# Altium footprint library IC_QFP.PcbLib: 10 footprints (part 2 of 4)
Each footprint in its own frame and in the unit in brackets; x right, y up, seen from the top. Pads: shape width x height; smd on the part's side, far side on the other; paste and mask are expansions set on the pad; w line width, h text height; cw(c..) or ccw(c..) is an arc to the next point about the centre after c.
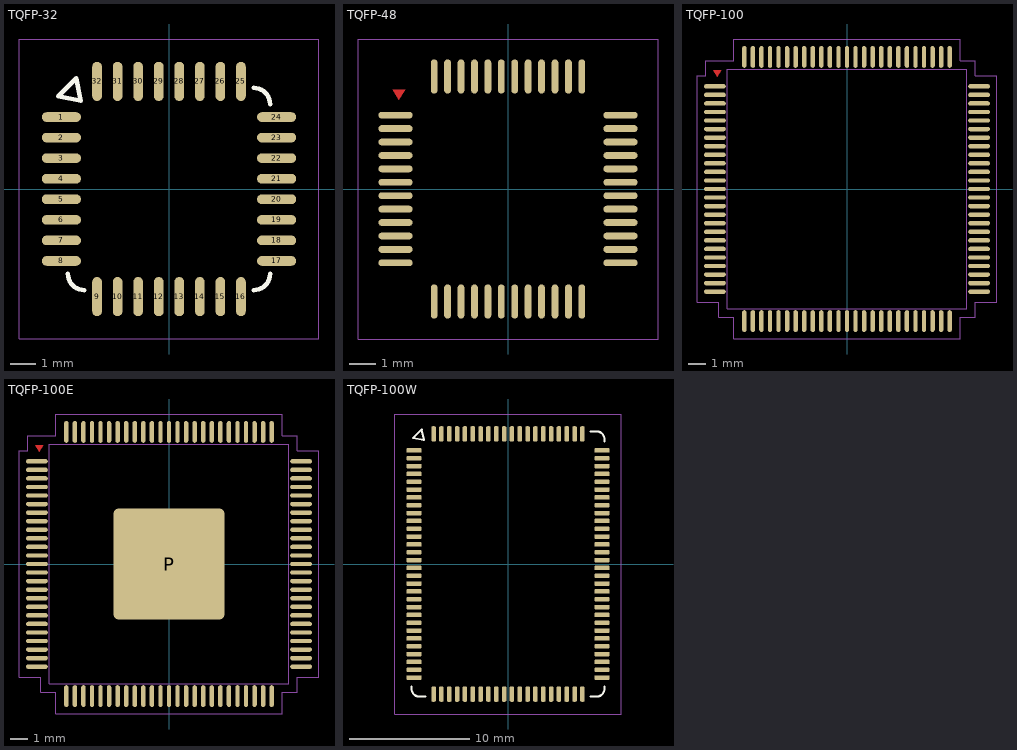
[diagram p1: the footprints below, top view; thin cyan lines are the x and y axes]

## TQFP-32 [mil]
pads (32):
  oval 60x15 smd: 1(-165,110.24) 2(-165,78.74) 3(-165,47.24) 4(-165,15.75) 5(-165,-15.75) 6(-165,-47.24) 7(-165,-78.74) 8(-165,-110.24) 17(165,-110.24) 18(165,-78.74) 19(165,-47.24) 20(165,-15.75) 21(165,15.75) 22(165,47.24) 23(165,78.74) 24(165,110.24)
  oval 15x60 smd: 9(-110.24,-165) 10(-78.74,-165) 11(-47.24,-165) 12(-15.75,-165) 13(15.75,-165) 14(47.24,-165) 15(78.74,-165) 16(110.24,-165) 25(110.24,165) 26(78.74,165) 27(47.24,165) 28(15.75,165) 29(-15.75,165) 30(-47.24,165) 31(-78.74,165) 32(-110.24,165)
Top Overlay:
  lines w7: -155,-130 ccw(c-130,-130) -130,-155 ; 130,-155 ccw(c130,-130) 155,-130 ; 130,155 cw(c130,130) 155,130 ; -169.8,141.96 -135,135 -141.96,169.8 -169.8,141.96
Top Courtyard:
  lines w1: -230,-230 -230,230 230,230 230,-230 -230,-230
3D body: height 30, standoff 0, extent 105.24,-158.94 115.24,-148.94
3D body: height 7, standoff 0, extent 105.24,-178.94 115.24,-158.94
3D body: height 30, standoff 23, extent 105.24,-148.94 115.24,-138.94
3D body: height 30, standoff 0, extent 73.74,-158.94 83.74,-148.94
3D body: height 7, standoff 0, extent 73.74,-178.94 83.74,-158.94
3D body: height 30, standoff 23, extent 73.74,-148.94 83.74,-138.94
3D body: height 30, standoff 0, extent 42.24,-158.94 52.24,-148.94
3D body: height 7, standoff 0, extent 42.24,-178.94 52.24,-158.94
3D body: height 30, standoff 23, extent 42.24,-148.94 52.24,-138.94
3D body: height 30, standoff 0, extent 10.75,-158.94 20.75,-148.94
3D body: height 7, standoff 0, extent 10.75,-178.94 20.75,-158.94
3D body: height 30, standoff 23, extent 10.75,-148.94 20.75,-138.94
3D body: height 30, standoff 0, extent -20.75,-158.94 -10.75,-148.94
3D body: height 7, standoff 0, extent -20.75,-178.94 -10.75,-158.94
3D body: height 30, standoff 23, extent -20.75,-148.94 -10.75,-138.94
3D body: height 30, standoff 0, extent -52.24,-158.94 -42.24,-148.94
3D body: height 7, standoff 0, extent -52.24,-178.94 -42.24,-158.94
3D body: height 30, standoff 23, extent -52.24,-148.94 -42.24,-138.94
3D body: height 30, standoff 0, extent -83.74,-158.94 -73.74,-148.94
3D body: height 7, standoff 0, extent -83.74,-178.94 -73.74,-158.94
3D body: height 30, standoff 23, extent -83.74,-148.94 -73.74,-138.94
3D body: height 30, standoff 0, extent -115.24,-158.94 -105.24,-148.94
3D body: height 7, standoff 0, extent -115.24,-178.94 -105.24,-158.94
3D body: height 30, standoff 23, extent -115.24,-148.94 -105.24,-138.94
3D body: height 30, standoff 0, extent -158.94,-115.24 -148.94,-105.24
3D body: height 7, standoff 0, extent -178.94,-115.24 -158.94,-105.24
3D body: height 30, standoff 23, extent -148.94,-115.24 -138.94,-105.24
3D body: height 30, standoff 0, extent -158.94,-83.74 -148.94,-73.74
3D body: height 7, standoff 0, extent -178.94,-83.74 -158.94,-73.74
3D body: height 30, standoff 23, extent -148.94,-83.74 -138.94,-73.74
3D body: height 30, standoff 0, extent -158.94,-52.24 -148.94,-42.24
3D body: height 7, standoff 0, extent -178.94,-52.24 -158.94,-42.24
3D body: height 30, standoff 23, extent -148.94,-52.24 -138.94,-42.24
3D body: height 30, standoff 0, extent -158.94,-20.75 -148.94,-10.75
3D body: height 7, standoff 0, extent -178.94,-20.75 -158.94,-10.75
3D body: height 30, standoff 23, extent -148.94,-20.75 -138.94,-10.75
3D body: height 30, standoff 0, extent -158.94,10.75 -148.94,20.75
3D body: height 7, standoff 0, extent -178.94,10.75 -158.94,20.75
3D body: height 30, standoff 23, extent -148.94,10.75 -138.94,20.75
3D body: height 30, standoff 0, extent -158.94,42.24 -148.94,52.24
3D body: height 7, standoff 0, extent -178.94,42.24 -158.94,52.24
3D body: height 30, standoff 23, extent -148.94,42.24 -138.94,52.24
3D body: height 30, standoff 0, extent -158.94,73.74 -148.94,83.74
3D body: height 7, standoff 0, extent -178.94,73.74 -158.94,83.74
3D body: height 30, standoff 23, extent -148.94,73.74 -138.94,83.74
3D body: height 30, standoff 0, extent -158.94,105.24 -148.94,115.24
3D body: height 7, standoff 0, extent -178.94,105.24 -158.94,115.24
3D body: height 30, standoff 23, extent -148.94,105.24 -138.94,115.24
3D body: height 30, standoff 0, extent -115.24,148.94 -105.24,158.94
3D body: height 7, standoff 0, extent -115.24,158.94 -105.24,178.94
3D body: height 30, standoff 23, extent -115.24,138.94 -105.24,148.94
3D body: height 30, standoff 0, extent -83.74,148.94 -73.74,158.94
3D body: height 7, standoff 0, extent -83.74,158.94 -73.74,178.94
3D body: height 30, standoff 23, extent -83.74,138.94 -73.74,148.94
3D body: height 30, standoff 0, extent -52.24,148.94 -42.24,158.94
3D body: height 7, standoff 0, extent -52.24,158.94 -42.24,178.94
3D body: height 30, standoff 23, extent -52.24,138.94 -42.24,148.94
3D body: height 30, standoff 0, extent -20.75,148.94 -10.75,158.94
3D body: height 7, standoff 0, extent -20.75,158.94 -10.75,178.94
3D body: height 30, standoff 23, extent -20.75,138.94 -10.75,148.94
3D body: height 30, standoff 0, extent 10.75,148.94 20.75,158.94
3D body: height 7, standoff 0, extent 10.75,158.94 20.75,178.94
3D body: height 30, standoff 23, extent 10.75,138.94 20.75,148.94
3D body: height 30, standoff 0, extent 42.24,148.94 52.24,158.94
3D body: height 7, standoff 0, extent 42.24,158.94 52.24,178.94
3D body: height 30, standoff 23, extent 42.24,138.94 52.24,148.94
3D body: height 30, standoff 0, extent 73.74,148.94 83.74,158.94
3D body: height 7, standoff 0, extent 73.74,158.94 83.74,178.94
3D body: height 30, standoff 23, extent 73.74,138.94 83.74,148.94
3D body: height 30, standoff 0, extent 105.24,148.94 115.24,158.94
3D body: height 7, standoff 0, extent 105.24,158.94 115.24,178.94
3D body: height 30, standoff 23, extent 105.24,138.94 115.24,148.94
3D body: height 30, standoff 23, extent 138.94,-115.24 148.94,-105.24
3D body: height 7, standoff 0, extent 158.94,-115.24 178.94,-105.24
3D body: height 30, standoff 0, extent 148.94,-115.24 158.94,-105.24
3D body: height 30, standoff 23, extent 138.94,-83.74 148.94,-73.74
3D body: height 7, standoff 0, extent 158.94,-83.74 178.94,-73.74
3D body: height 30, standoff 0, extent 148.94,-83.74 158.94,-73.74
3D body: height 30, standoff 23, extent 138.94,-52.24 148.94,-42.24
3D body: height 7, standoff 0, extent 158.94,-52.24 178.94,-42.24
3D body: height 30, standoff 0, extent 148.94,-52.24 158.94,-42.24
3D body: height 30, standoff 23, extent 138.94,-20.75 148.94,-10.75
3D body: height 7, standoff 0, extent 158.94,-20.75 178.94,-10.75
3D body: height 30, standoff 0, extent 148.94,-20.75 158.94,-10.75
3D body: height 30, standoff 23, extent 138.94,10.75 148.94,20.75
3D body: height 7, standoff 0, extent 158.94,10.75 178.94,20.75
3D body: height 30, standoff 0, extent 148.94,10.75 158.94,20.75
3D body: height 30, standoff 23, extent 138.94,42.24 148.94,52.24
3D body: height 7, standoff 0, extent 158.94,42.24 178.94,52.24
3D body: height 30, standoff 0, extent 148.94,42.24 158.94,52.24
3D body: height 30, standoff 23, extent 138.94,73.74 148.94,83.74
3D body: height 7, standoff 0, extent 158.94,73.74 178.94,83.74
3D body: height 30, standoff 0, extent 148.94,73.74 158.94,83.74
3D body: height 30, standoff 23, extent 138.94,105.24 148.94,115.24
3D body: height 7, standoff 0, extent 158.94,105.24 178.94,115.24
3D body: height 30, standoff 0, extent 148.94,105.24 158.94,115.24
3D body: height 45.5, standoff 45, extent -120,94 -94,120
3D body: height 45, standoff 0, extent -140,-140 140,140

## TQFP-48 [mil]
pads (48):
  oval 50x10 smd mask+2: 1(-165,108.27) 2(-165,88.58) 3(-165,68.9) 4(-165,49.21) 5(-165,29.53) 6(-165,9.84) 7(-165,-9.84) 8(-165,-29.53) 9(-165,-49.21) 10(-165,-68.9) 11(-165,-88.58) 12(-165,-108.27) 25(165,-108.27) 26(165,-88.58) 27(165,-68.9) 28(165,-49.21) 29(165,-29.53) 30(165,-9.84) 31(165,9.84) 32(165,29.53) 33(165,49.21) 34(165,68.9) 35(165,88.58) 36(165,108.27)
  oval 10x50 smd mask+2: 13(-108.27,-165) 14(-88.58,-165) 15(-68.9,-165) 16(-49.21,-165) 17(-29.53,-165) 18(-9.84,-165) 19(9.84,-165) 20(29.53,-165) 21(49.21,-165) 22(68.9,-165) 23(88.58,-165) 24(108.27,-165) 37(108.27,165) 38(88.58,165) 39(68.9,165) 40(49.21,165) 41(29.53,165) 42(9.84,165) 43(-9.84,165) 44(-29.53,165) 45(-49.21,165) 46(-68.9,165) 47(-88.58,165) 48(-108.27,165)
Top Layer:
  region: -160,130.63 -151,145.63 -169,145.63
Top Courtyard:
  lines w1: -220,-220 220,-220 220,220 -220,220 -220,-220
3D body "LQFP-48.stp": height 61.99, standoff -0.97, extent -177.16,-177.16 177.17,177.17

## TQFP-100 [mil]
pads (100):
  oval 50x10 smd mask+2: 1(-303.78,236.22) 2(-303.78,216.54) 3(-303.78,196.85) 4(-303.78,177.17) 5(-303.78,157.48) 6(-303.78,137.8) 7(-303.78,118.11) 8(-303.78,98.43) 9(-303.78,78.74) 10(-303.78,59.06) 11(-303.78,39.37) 12(-303.78,19.68) 13(-303.78,0) 14(-303.78,-19.68) 15(-303.78,-39.37) 16(-303.78,-59.06) 17(-303.78,-78.74) 18(-303.78,-98.43) 19(-303.78,-118.11) 20(-303.78,-137.8) 21(-303.78,-157.48) 22(-303.78,-177.17) 23(-303.78,-196.85) 24(-303.78,-216.54) 25(-303.78,-236.22) 51(303.78,-236.22) 52(303.78,-216.54) 53(303.78,-196.85) 54(303.78,-177.17) 55(303.78,-157.48) 56(303.78,-137.8) 57(303.78,-118.11) 58(303.78,-98.43) 59(303.78,-78.74) 60(303.78,-59.06) 61(303.78,-39.37) 62(303.78,-19.68) 63(303.78,0) 64(303.78,19.68) 65(303.78,39.37) 66(303.78,59.06) 67(303.78,78.74) 68(303.78,98.43) 69(303.78,118.11) 70(303.78,137.8) 71(303.78,157.48) 72(303.78,177.17) 73(303.78,196.85) 74(303.78,216.54) 75(303.78,236.22)
  oval 10x50 smd mask+2: 26(-236.22,-303.78) 27(-216.54,-303.78) 28(-196.85,-303.78) 29(-177.17,-303.78) 30(-157.48,-303.78) 31(-137.8,-303.78) 32(-118.11,-303.78) 33(-98.43,-303.78) 34(-78.74,-303.78) 35(-59.06,-303.78) 36(-39.37,-303.78) 37(-19.68,-303.78) 38(0,-303.78) 39(19.68,-303.78) 40(39.37,-303.78) 41(59.06,-303.78) 42(78.74,-303.78) 43(98.43,-303.78) 44(118.11,-303.78) 45(137.8,-303.78) 46(157.48,-303.78) 47(177.17,-303.78) 48(196.85,-303.78) 49(216.53,-303.78) 50(236.22,-303.78) 76(236.22,303.78) 77(216.53,303.78) 78(196.85,303.78) 79(177.16,303.78) 80(157.48,303.78) 81(137.8,303.78) 82(118.11,303.78) 83(98.43,303.78) 84(78.74,303.78) 85(59.06,303.78) 86(39.37,303.78) 87(19.68,303.78) 88(0,303.78) 89(-19.68,303.78) 90(-39.37,303.78) 91(-59.06,303.78) 92(-78.74,303.78) 93(-98.43,303.78) 94(-118.11,303.78) 95(-137.8,303.78) 96(-157.48,303.78) 97(-177.17,303.78) 98(-196.85,303.78) 99(-216.54,303.78) 100(-236.22,303.78)
Top Layer:
  region: -298.78,258.58 -289.78,273.58 -307.78,273.58
Top Courtyard:
  lines w1: -345,-260 -295,-260 -295,-295 -260,-295 -260,-345 260,-345 260,-295 295,-295 295,-260 345,-260 345,260 295,260 295,295 260,295 260,345 -260,345 -260,295 -325,295 -325,260 -345,260 -345,-260
Top Component Outline:
  lines w1: -275.59,-275.59 -275.59,275.59 275.59,275.59 275.59,-275.59 -275.59,-275.59
3D body "TQFP-100.STEP": height 46.24, standoff -0.97, extent -314.95,-314.96 314.97,314.96

## TQFP-100E [mil]
pads (101):
  oval 50x10 smd mask+2: 1(-303.78,236.22) 2(-303.78,216.54) 3(-303.78,196.85) 4(-303.78,177.17) 5(-303.78,157.48) 6(-303.78,137.8) 7(-303.78,118.11) 8(-303.78,98.43) 9(-303.78,78.74) 10(-303.78,59.06) 11(-303.78,39.37) 12(-303.78,19.68) 13(-303.78,0) 14(-303.78,-19.68) 15(-303.78,-39.37) 16(-303.78,-59.06) 17(-303.78,-78.74) 18(-303.78,-98.43) 19(-303.78,-118.11) 20(-303.78,-137.8) 21(-303.78,-157.48) 22(-303.78,-177.17) 23(-303.78,-196.85) 24(-303.78,-216.54) 25(-303.78,-236.22) 51(303.78,-236.22) 52(303.78,-216.54) 53(303.78,-196.85) 54(303.78,-177.17) 55(303.78,-157.48) 56(303.78,-137.8) 57(303.78,-118.11) 58(303.78,-98.43) 59(303.78,-78.74) 60(303.78,-59.06) 61(303.78,-39.37) 62(303.78,-19.68) 63(303.78,0) 64(303.78,19.68) 65(303.78,39.37) 66(303.78,59.06) 67(303.78,78.74) 68(303.78,98.43) 69(303.78,118.11) 70(303.78,137.8) 71(303.78,157.48) 72(303.78,177.17) 73(303.78,196.85) 74(303.78,216.54) 75(303.78,236.22)
  oval 10x50 smd mask+2: 26(-236.22,-303.78) 27(-216.54,-303.78) 28(-196.85,-303.78) 29(-177.17,-303.78) 30(-157.48,-303.78) 31(-137.8,-303.78) 32(-118.11,-303.78) 33(-98.43,-303.78) 34(-78.74,-303.78) 35(-59.06,-303.78) 36(-39.37,-303.78) 37(-19.68,-303.78) 38(0,-303.78) 39(19.68,-303.78) 40(39.37,-303.78) 41(59.06,-303.78) 42(78.74,-303.78) 43(98.43,-303.78) 44(118.11,-303.78) 45(137.8,-303.78) 46(157.48,-303.78) 47(177.17,-303.78) 48(196.85,-303.78) 49(216.53,-303.78) 50(236.22,-303.78) 76(236.22,303.78) 77(216.53,303.78) 78(196.85,303.78) 79(177.16,303.78) 80(157.48,303.78) 81(137.8,303.78) 82(118.11,303.78) 83(98.43,303.78) 84(78.74,303.78) 85(59.06,303.78) 86(39.37,303.78) 87(19.68,303.78) 88(0,303.78) 89(-19.68,303.78) 90(-39.37,303.78) 91(-59.06,303.78) 92(-78.74,303.78) 93(-98.43,303.78) 94(-118.11,303.78) 95(-137.8,303.78) 96(-157.48,303.78) 97(-177.17,303.78) 98(-196.85,303.78) 99(-216.54,303.78) 100(-236.22,303.78)
  rrect10% 256x256 smd: P(0,0)
Top Layer:
  region: -298.78,258.58 -289.78,273.58 -307.78,273.58
Top Courtyard:
  lines w1: -345,-260 -295,-260 -295,-295 -260,-295 -260,-345 260,-345 260,-295 295,-295 295,-260 345,-260 345,260 295,260 295,295 260,295 260,345 -260,345 -260,295 -325,295 -325,260 -345,260 -345,-260
Top Component Outline:
  lines w1: -275.59,-275.59 -275.59,275.59 275.59,275.59 275.59,-275.59 -275.59,-275.59
3D body "TQFP-100.STEP": height 46.24, standoff -0.97, extent -314.95,-314.96 314.97,314.96

## TQFP-100W [mil]
pads (100):
  rrect60% 50x15 smd: 1(-307,371.06) 2(-307,345.47) 3(-307,319.88) 4(-307,294.29) 5(-307,268.7) 6(-307,243.11) 7(-307,217.52) 8(-307,191.93) 9(-307,166.34) 10(-307,140.75) 11(-307,115.16) 12(-307,89.57) 13(-307,63.98) 14(-307,38.39) 15(-307,12.8) 16(-307,-12.8) 17(-307,-38.39) 18(-307,-63.98) 19(-307,-89.57) 20(-307,-115.16) 21(-307,-140.75) 22(-307,-166.34) 23(-307,-191.93) 24(-307,-217.52) 25(-307,-243.11) 26(-307,-268.7) 27(-307,-294.29) 28(-307,-319.88) 29(-307,-345.47) 30(-307,-371.06) 51(307,-371.06) 52(307,-345.47) 53(307,-319.88) 54(307,-294.29) 55(307,-268.7) 56(307,-243.11) 57(307,-217.52) 58(307,-191.93) 59(307,-166.34) 60(307,-140.75) 61(307,-115.16) 62(307,-89.57) 63(307,-63.98) 64(307,-38.39) 65(307,-12.8) 66(307,12.8) 67(307,38.39) 68(307,63.98) 69(307,89.57) 70(307,115.16) 71(307,140.75) 72(307,166.34) 73(307,191.93) 74(307,217.52) 75(307,243.11) 76(307,268.7) 77(307,294.29) 78(307,319.88) 79(307,345.47) 80(307,371.06)
  rrect60% 15x50 smd: 31(-243.11,-425) 32(-217.52,-425) 33(-191.93,-425) 34(-166.34,-425) 35(-140.75,-425) 36(-115.16,-425) 37(-89.57,-425) 38(-63.98,-425) 39(-38.39,-425) 40(-12.8,-425) 41(12.8,-425) 42(38.39,-425) 43(63.98,-425) 44(89.57,-425) 45(115.16,-425) 46(140.75,-425) 47(166.34,-425) 48(191.93,-425) 49(217.52,-425) 50(243.11,-425) 81(243.11,425) 82(217.52,425) 83(191.93,425) 84(166.34,425) 85(140.75,425) 86(115.16,425) 87(89.57,425) 88(63.98,425) 89(38.39,425) 90(12.8,425) 91(-12.8,425) 92(-38.39,425) 93(-63.98,425) 94(-89.57,425) 95(-115.16,425) 96(-140.75,425) 97(-166.34,425) 98(-191.93,425) 99(-217.52,425) 100(-243.11,425)
Top Overlay:
  lines w7: -314.96,-400 -314.96,-408.07 ccw(c-289.96,-408.07) -289.96,-433.07 -269.96,-433.07 ; 269.96,-433.07 289.96,-433.07 ccw(c289.96,-408.07) 314.96,-408.07 314.96,-400 ; 269.96,433.07 289.96,433.07 cw(c289.96,408.07) 314.96,408.07 314.96,400 ; -309.8,411.96 -281.96,439.8 -275,405 -309.8,411.96
Top Courtyard:
  lines w1: -370,-490 -370,490 370,490 370,-490 -370,-490
3D body: height 60, standoff 0, extent -275.59,-393.7 275.59,393.7
3D body: height 60.5, standoff 60, extent -228,319 -202,345
3D body: height 6, standoff 0, extent -314.96,365.06 -299.96,377.06
3D body: height 30, standoff 0, extent -299.96,365.06 -289.96,377.06
3D body: height 30, standoff 24, extent -289.96,365.06 -272.96,377.06
3D body: height 6, standoff 0, extent -314.96,339.47 -299.96,351.47
3D body: height 30, standoff 0, extent -299.96,339.47 -289.96,351.47
3D body: height 30, standoff 24, extent -289.96,339.47 -272.96,351.47
3D body: height 6, standoff 0, extent -314.96,313.88 -299.96,325.88
3D body: height 30, standoff 0, extent -299.96,313.88 -289.96,325.88
3D body: height 30, standoff 24, extent -289.96,313.88 -272.96,325.88
3D body: height 6, standoff 0, extent -314.96,288.29 -299.96,300.29
3D body: height 30, standoff 0, extent -299.96,288.29 -289.96,300.29
3D body: height 30, standoff 24, extent -289.96,288.29 -272.96,300.29
3D body: height 6, standoff 0, extent -314.96,262.7 -299.96,274.7
3D body: height 30, standoff 0, extent -299.96,262.7 -289.96,274.7
3D body: height 30, standoff 24, extent -289.96,262.7 -272.96,274.7
3D body: height 30, standoff 24, extent -289.96,134.75 -272.96,146.75
3D body: height 30, standoff 0, extent -299.96,134.75 -289.96,146.75
3D body: height 6, standoff 0, extent -314.96,134.75 -299.96,146.75
3D body: height 30, standoff 24, extent -289.96,160.34 -272.96,172.34
3D body: height 30, standoff 0, extent -299.96,160.34 -289.96,172.34
3D body: height 6, standoff 0, extent -314.96,160.34 -299.96,172.34
3D body: height 30, standoff 24, extent -289.96,185.93 -272.96,197.93
3D body: height 30, standoff 0, extent -299.96,185.93 -289.96,197.93
3D body: height 6, standoff 0, extent -314.96,185.93 -299.96,197.93
3D body: height 30, standoff 24, extent -289.96,211.52 -272.96,223.52
3D body: height 30, standoff 0, extent -299.96,211.52 -289.96,223.52
3D body: height 6, standoff 0, extent -314.96,211.52 -299.96,223.52
3D body: height 30, standoff 24, extent -289.96,237.11 -272.96,249.11
3D body: height 30, standoff 0, extent -299.96,237.11 -289.96,249.11
3D body: height 6, standoff 0, extent -314.96,237.11 -299.96,249.11
3D body: height 30, standoff 24, extent -289.96,6.8 -272.96,18.8
3D body: height 30, standoff 0, extent -299.96,6.8 -289.96,18.8
3D body: height 6, standoff 0, extent -314.96,6.8 -299.96,18.8
3D body: height 30, standoff 24, extent -289.96,32.39 -272.96,44.39
3D body: height 30, standoff 0, extent -299.96,32.39 -289.96,44.39
3D body: height 6, standoff 0, extent -314.96,32.39 -299.96,44.39
3D body: height 30, standoff 24, extent -289.96,57.98 -272.96,69.98
3D body: height 30, standoff 0, extent -299.96,57.98 -289.96,69.98
3D body: height 6, standoff 0, extent -314.96,57.98 -299.96,69.98
3D body: height 30, standoff 24, extent -289.96,83.57 -272.96,95.57
3D body: height 30, standoff 0, extent -299.96,83.57 -289.96,95.57
3D body: height 6, standoff 0, extent -314.96,83.57 -299.96,95.57
3D body: height 30, standoff 24, extent -289.96,109.16 -272.96,121.16
3D body: height 30, standoff 0, extent -299.96,109.16 -289.96,121.16
3D body: height 6, standoff 0, extent -314.96,109.16 -299.96,121.16
3D body: height 30, standoff 24, extent -289.96,-121.16 -272.96,-109.16
3D body: height 30, standoff 0, extent -299.96,-121.16 -289.96,-109.16
3D body: height 6, standoff 0, extent -314.96,-121.16 -299.96,-109.16
3D body: height 30, standoff 24, extent -289.96,-95.57 -272.96,-83.57
3D body: height 30, standoff 0, extent -299.96,-95.57 -289.96,-83.57
3D body: height 6, standoff 0, extent -314.96,-95.57 -299.96,-83.57
3D body: height 30, standoff 24, extent -289.96,-69.98 -272.96,-57.98
3D body: height 30, standoff 0, extent -299.96,-69.98 -289.96,-57.98
3D body: height 6, standoff 0, extent -314.96,-69.98 -299.96,-57.98
3D body: height 30, standoff 24, extent -289.96,-44.39 -272.96,-32.39
3D body: height 30, standoff 0, extent -299.96,-44.39 -289.96,-32.39
3D body: height 6, standoff 0, extent -314.96,-44.39 -299.96,-32.39
3D body: height 30, standoff 24, extent -289.96,-18.8 -272.96,-6.8
3D body: height 30, standoff 0, extent -299.96,-18.8 -289.96,-6.8
3D body: height 6, standoff 0, extent -314.96,-18.8 -299.96,-6.8
3D body: height 30, standoff 24, extent -289.96,-249.11 -272.96,-237.11
3D body: height 30, standoff 0, extent -299.96,-249.11 -289.96,-237.11
3D body: height 6, standoff 0, extent -314.96,-249.11 -299.96,-237.11
3D body: height 30, standoff 24, extent -289.96,-223.52 -272.96,-211.52
3D body: height 30, standoff 0, extent -299.96,-223.52 -289.96,-211.52
3D body: height 6, standoff 0, extent -314.96,-223.52 -299.96,-211.52
3D body: height 30, standoff 24, extent -289.96,-197.93 -272.96,-185.93
3D body: height 30, standoff 0, extent -299.96,-197.93 -289.96,-185.93
3D body: height 6, standoff 0, extent -314.96,-197.93 -299.96,-185.93
3D body: height 30, standoff 24, extent -289.96,-172.34 -272.96,-160.34
3D body: height 30, standoff 0, extent -299.96,-172.34 -289.96,-160.34
3D body: height 6, standoff 0, extent -314.96,-172.34 -299.96,-160.34
3D body: height 30, standoff 24, extent -289.96,-146.75 -272.96,-134.75
3D body: height 30, standoff 0, extent -299.96,-146.75 -289.96,-134.75
3D body: height 6, standoff 0, extent -314.96,-146.75 -299.96,-134.75
3D body: height 30, standoff 24, extent -289.96,-377.06 -272.96,-365.06
3D body: height 30, standoff 0, extent -299.96,-377.06 -289.96,-365.06
3D body: height 6, standoff 0, extent -314.96,-377.06 -299.96,-365.06
3D body: height 30, standoff 24, extent -289.96,-351.47 -272.96,-339.47
3D body: height 30, standoff 0, extent -299.96,-351.47 -289.96,-339.47
3D body: height 6, standoff 0, extent -314.96,-351.47 -299.96,-339.47
3D body: height 30, standoff 24, extent -289.96,-325.88 -272.96,-313.88
3D body: height 30, standoff 0, extent -299.96,-325.88 -289.96,-313.88
3D body: height 6, standoff 0, extent -314.96,-325.88 -299.96,-313.88
3D body: height 30, standoff 24, extent -289.96,-300.29 -272.96,-288.29
3D body: height 30, standoff 0, extent -299.96,-300.29 -289.96,-288.29
3D body: height 6, standoff 0, extent -314.96,-300.29 -299.96,-288.29
3D body: height 30, standoff 24, extent -289.96,-274.7 -272.96,-262.7
3D body: height 30, standoff 0, extent -299.96,-274.7 -289.96,-262.7
3D body: height 6, standoff 0, extent -314.96,-274.7 -299.96,-262.7
3D body: height 6, standoff 0, extent 134.75,-433.07 146.75,-418.07
3D body: height 30, standoff 0, extent 134.75,-418.07 146.75,-408.07
3D body: height 30, standoff 24, extent 134.75,-408.07 146.75,-391.07
3D body: height 6, standoff 0, extent 160.34,-433.07 172.34,-418.07
3D body: height 30, standoff 0, extent 160.34,-418.07 172.34,-408.07
3D body: height 30, standoff 24, extent 160.34,-408.07 172.34,-391.07
3D body: height 6, standoff 0, extent 185.93,-433.07 197.93,-418.07
3D body: height 30, standoff 0, extent 185.93,-418.07 197.93,-408.07
3D body: height 30, standoff 24, extent 185.93,-408.07 197.93,-391.07
3D body: height 6, standoff 0, extent 211.52,-433.07 223.52,-418.07
3D body: height 30, standoff 0, extent 211.52,-418.07 223.52,-408.07
3D body: height 30, standoff 24, extent 211.52,-408.07 223.52,-391.07
3D body: height 6, standoff 0, extent 237.11,-433.07 249.11,-418.07
3D body: height 30, standoff 0, extent 237.11,-418.07 249.11,-408.07
3D body: height 30, standoff 24, extent 237.11,-408.07 249.11,-391.07
3D body: height 6, standoff 0, extent 6.8,-433.07 18.8,-418.07
3D body: height 30, standoff 0, extent 6.8,-418.07 18.8,-408.07
3D body: height 30, standoff 24, extent 6.8,-408.07 18.8,-391.07
3D body: height 6, standoff 0, extent 32.39,-433.07 44.39,-418.07
3D body: height 30, standoff 0, extent 32.39,-418.07 44.39,-408.07
3D body: height 30, standoff 24, extent 32.39,-408.07 44.39,-391.07
3D body: height 6, standoff 0, extent 57.98,-433.07 69.98,-418.07
3D body: height 30, standoff 0, extent 57.98,-418.07 69.98,-408.07
3D body: height 30, standoff 24, extent 57.98,-408.07 69.98,-391.07
3D body: height 6, standoff 0, extent 83.57,-433.07 95.57,-418.07
3D body: height 30, standoff 0, extent 83.57,-418.07 95.57,-408.07
3D body: height 30, standoff 24, extent 83.57,-408.07 95.57,-391.07
3D body: height 6, standoff 0, extent 109.16,-433.07 121.16,-418.07
3D body: height 30, standoff 0, extent 109.16,-418.07 121.16,-408.07
3D body: height 30, standoff 24, extent 109.16,-408.07 121.16,-391.07
3D body: height 6, standoff 0, extent -121.16,-433.07 -109.16,-418.07
3D body: height 30, standoff 0, extent -121.16,-418.07 -109.16,-408.07
3D body: height 30, standoff 24, extent -121.16,-408.07 -109.16,-391.07
3D body: height 6, standoff 0, extent -95.57,-433.07 -83.57,-418.07
3D body: height 30, standoff 0, extent -95.57,-418.07 -83.57,-408.07
3D body: height 30, standoff 24, extent -95.57,-408.07 -83.57,-391.07
3D body: height 6, standoff 0, extent -69.98,-433.07 -57.98,-418.07
3D body: height 30, standoff 0, extent -69.98,-418.07 -57.98,-408.07
3D body: height 30, standoff 24, extent -69.98,-408.07 -57.98,-391.07
3D body: height 6, standoff 0, extent -44.39,-433.07 -32.39,-418.07
3D body: height 30, standoff 0, extent -44.39,-418.07 -32.39,-408.07
3D body: height 30, standoff 24, extent -44.39,-408.07 -32.39,-391.07
3D body: height 6, standoff 0, extent -18.8,-433.07 -6.8,-418.07
3D body: height 30, standoff 0, extent -18.8,-418.07 -6.8,-408.07
3D body: height 30, standoff 24, extent -18.8,-408.07 -6.8,-391.07
3D body: height 30, standoff 24, extent -146.75,-408.07 -134.75,-391.07
3D body: height 30, standoff 0, extent -146.75,-418.07 -134.75,-408.07
3D body: height 6, standoff 0, extent -146.75,-433.07 -134.75,-418.07
3D body: height 30, standoff 24, extent -172.34,-408.07 -160.34,-391.07
3D body: height 30, standoff 0, extent -172.34,-418.07 -160.34,-408.07
3D body: height 6, standoff 0, extent -172.34,-433.07 -160.34,-418.07
3D body: height 30, standoff 24, extent -197.93,-408.07 -185.93,-391.07
3D body: height 30, standoff 0, extent -197.93,-418.07 -185.93,-408.07
3D body: height 6, standoff 0, extent -197.93,-433.07 -185.93,-418.07
3D body: height 30, standoff 24, extent -223.52,-408.07 -211.52,-391.07
3D body: height 30, standoff 0, extent -223.52,-418.07 -211.52,-408.07
3D body: height 6, standoff 0, extent -223.52,-433.07 -211.52,-418.07
3D body: height 30, standoff 24, extent -249.11,-408.07 -237.11,-391.07
3D body: height 30, standoff 0, extent -249.11,-418.07 -237.11,-408.07
3D body: height 6, standoff 0, extent -249.11,-433.07 -237.11,-418.07
3D body: height 6, standoff 0, extent 299.96,262.7 314.96,274.7
3D body: height 30, standoff 0, extent 289.96,262.7 299.96,274.7
3D body: height 30, standoff 24, extent 272.96,262.7 289.96,274.7
3D body: height 6, standoff 0, extent 299.96,288.29 314.96,300.29
3D body: height 30, standoff 0, extent 289.96,288.29 299.96,300.29
3D body: height 30, standoff 24, extent 272.96,288.29 289.96,300.29
3D body: height 6, standoff 0, extent 299.96,313.88 314.96,325.88
3D body: height 30, standoff 0, extent 289.96,313.88 299.96,325.88
3D body: height 30, standoff 24, extent 272.96,313.88 289.96,325.88
3D body: height 6, standoff 0, extent 299.96,339.47 314.96,351.47
3D body: height 30, standoff 0, extent 289.96,339.47 299.96,351.47
3D body: height 30, standoff 24, extent 272.96,339.47 289.96,351.47
3D body: height 6, standoff 0, extent 299.96,365.06 314.96,377.06
3D body: height 30, standoff 0, extent 289.96,365.06 299.96,377.06
3D body: height 30, standoff 24, extent 272.96,365.06 289.96,377.06
3D body: height 6, standoff 0, extent 299.96,134.75 314.96,146.75
3D body: height 30, standoff 0, extent 289.96,134.75 299.96,146.75
3D body: height 30, standoff 24, extent 272.96,134.75 289.96,146.75
3D body: height 6, standoff 0, extent 299.96,160.34 314.96,172.34
3D body: height 30, standoff 0, extent 289.96,160.34 299.96,172.34
3D body: height 30, standoff 24, extent 272.96,160.34 289.96,172.34
3D body: height 6, standoff 0, extent 299.96,185.93 314.96,197.93
3D body: height 30, standoff 0, extent 289.96,185.93 299.96,197.93
3D body: height 30, standoff 24, extent 272.96,185.93 289.96,197.93
3D body: height 6, standoff 0, extent 299.96,211.52 314.96,223.52
3D body: height 30, standoff 0, extent 289.96,211.52 299.96,223.52
3D body: height 30, standoff 24, extent 272.96,211.52 289.96,223.52
3D body: height 6, standoff 0, extent 299.96,237.11 314.96,249.11
3D body: height 30, standoff 0, extent 289.96,237.11 299.96,249.11
3D body: height 30, standoff 24, extent 272.96,237.11 289.96,249.11
3D body: height 6, standoff 0, extent 299.96,6.8 314.96,18.8
3D body: height 30, standoff 0, extent 289.96,6.8 299.96,18.8
3D body: height 30, standoff 24, extent 272.96,6.8 289.96,18.8
3D body: height 6, standoff 0, extent 299.96,32.39 314.96,44.39
3D body: height 30, standoff 0, extent 289.96,32.39 299.96,44.39
3D body: height 30, standoff 24, extent 272.96,32.39 289.96,44.39
3D body: height 6, standoff 0, extent 299.96,57.98 314.96,69.98
3D body: height 30, standoff 0, extent 289.96,57.98 299.96,69.98
3D body: height 30, standoff 24, extent 272.96,57.98 289.96,69.98
3D body: height 6, standoff 0, extent 299.96,83.57 314.96,95.57
3D body: height 30, standoff 0, extent 289.96,83.57 299.96,95.57
3D body: height 30, standoff 24, extent 272.96,83.57 289.96,95.57
3D body: height 6, standoff 0, extent 299.96,109.16 314.96,121.16
3D body: height 30, standoff 0, extent 289.96,109.16 299.96,121.16
3D body: height 30, standoff 24, extent 272.96,109.16 289.96,121.16
3D body: height 6, standoff 0, extent 299.96,-121.16 314.96,-109.16
3D body: height 30, standoff 0, extent 289.96,-121.16 299.96,-109.16
3D body: height 30, standoff 24, extent 272.96,-121.16 289.96,-109.16
3D body: height 6, standoff 0, extent 299.96,-95.57 314.96,-83.57
3D body: height 30, standoff 0, extent 289.96,-95.57 299.96,-83.57
3D body: height 30, standoff 24, extent 272.96,-95.57 289.96,-83.57
3D body: height 6, standoff 0, extent 299.96,-69.98 314.96,-57.98
3D body: height 30, standoff 0, extent 289.96,-69.98 299.96,-57.98
3D body: height 30, standoff 24, extent 272.96,-69.98 289.96,-57.98
3D body: height 6, standoff 0, extent 299.96,-44.39 314.96,-32.39
3D body: height 30, standoff 0, extent 289.96,-44.39 299.96,-32.39
3D body: height 30, standoff 24, extent 272.96,-44.39 289.96,-32.39
3D body: height 6, standoff 0, extent 299.96,-18.8 314.96,-6.8
3D body: height 30, standoff 0, extent 289.96,-18.8 299.96,-6.8
3D body: height 30, standoff 24, extent 272.96,-18.8 289.96,-6.8
3D body: height 6, standoff 0, extent 299.96,-249.11 314.96,-237.11
3D body: height 30, standoff 0, extent 289.96,-249.11 299.96,-237.11
3D body: height 30, standoff 24, extent 272.96,-249.11 289.96,-237.11
3D body: height 6, standoff 0, extent 299.96,-223.52 314.96,-211.52
3D body: height 30, standoff 0, extent 289.96,-223.52 299.96,-211.52
3D body: height 30, standoff 24, extent 272.96,-223.52 289.96,-211.52
3D body: height 6, standoff 0, extent 299.96,-197.93 314.96,-185.93
3D body: height 30, standoff 0, extent 289.96,-197.93 299.96,-185.93
3D body: height 30, standoff 24, extent 272.96,-197.93 289.96,-185.93
3D body: height 6, standoff 0, extent 299.96,-172.34 314.96,-160.34
3D body: height 30, standoff 0, extent 289.96,-172.34 299.96,-160.34
3D body: height 30, standoff 24, extent 272.96,-172.34 289.96,-160.34
3D body: height 6, standoff 0, extent 299.96,-146.75 314.96,-134.75
3D body: height 30, standoff 0, extent 289.96,-146.75 299.96,-134.75
3D body: height 30, standoff 24, extent 272.96,-146.75 289.96,-134.75
3D body: height 30, standoff 24, extent 272.96,-274.7 289.96,-262.7
3D body: height 30, standoff 0, extent 289.96,-274.7 299.96,-262.7
3D body: height 6, standoff 0, extent 299.96,-274.7 314.96,-262.7
3D body: height 30, standoff 24, extent 272.96,-300.29 289.96,-288.29
3D body: height 30, standoff 0, extent 289.96,-300.29 299.96,-288.29
3D body: height 6, standoff 0, extent 299.96,-300.29 314.96,-288.29
3D body: height 30, standoff 24, extent 272.96,-325.88 289.96,-313.88
3D body: height 30, standoff 0, extent 289.96,-325.88 299.96,-313.88
3D body: height 6, standoff 0, extent 299.96,-325.88 314.96,-313.88
3D body: height 30, standoff 24, extent 272.96,-351.47 289.96,-339.47
3D body: height 30, standoff 0, extent 289.96,-351.47 299.96,-339.47
3D body: height 6, standoff 0, extent 299.96,-351.47 314.96,-339.47
3D body: height 30, standoff 24, extent 272.96,-377.06 289.96,-365.06
3D body: height 30, standoff 0, extent 289.96,-377.06 299.96,-365.06
3D body: height 6, standoff 0, extent 299.96,-377.06 314.96,-365.06
3D body: height 6, standoff 0, extent -146.75,418.07 -134.75,433.07
3D body: height 30, standoff 0, extent -146.75,408.07 -134.75,418.07
3D body: height 30, standoff 24, extent -146.75,391.07 -134.75,408.07
3D body: height 6, standoff 0, extent -172.34,418.07 -160.34,433.07
3D body: height 30, standoff 0, extent -172.34,408.07 -160.34,418.07
3D body: height 30, standoff 24, extent -172.34,391.07 -160.34,408.07
3D body: height 6, standoff 0, extent -197.93,418.07 -185.93,433.07
3D body: height 30, standoff 0, extent -197.93,408.07 -185.93,418.07
3D body: height 30, standoff 24, extent -197.93,391.07 -185.93,408.07
3D body: height 6, standoff 0, extent -223.52,418.07 -211.52,433.07
3D body: height 30, standoff 0, extent -223.52,408.07 -211.52,418.07
3D body: height 30, standoff 24, extent -223.52,391.07 -211.52,408.07
3D body: height 6, standoff 0, extent -249.11,418.07 -237.11,433.07
3D body: height 30, standoff 0, extent -249.11,408.07 -237.11,418.07
3D body: height 30, standoff 24, extent -249.11,391.07 -237.11,408.07
3D body: height 6, standoff 0, extent -18.8,418.07 -6.8,433.07
3D body: height 30, standoff 0, extent -18.8,408.07 -6.8,418.07
3D body: height 30, standoff 24, extent -18.8,391.07 -6.8,408.07
3D body: height 6, standoff 0, extent -44.39,418.07 -32.39,433.07
3D body: height 30, standoff 0, extent -44.39,408.07 -32.39,418.07
3D body: height 30, standoff 24, extent -44.39,391.07 -32.39,408.07
3D body: height 6, standoff 0, extent -69.98,418.07 -57.98,433.07
3D body: height 30, standoff 0, extent -69.98,408.07 -57.98,418.07
3D body: height 30, standoff 24, extent -69.98,391.07 -57.98,408.07
3D body: height 6, standoff 0, extent -95.57,418.07 -83.57,433.07
3D body: height 30, standoff 0, extent -95.57,408.07 -83.57,418.07
3D body: height 30, standoff 24, extent -95.57,391.07 -83.57,408.07
3D body: height 6, standoff 0, extent -121.16,418.07 -109.16,433.07
3D body: height 30, standoff 0, extent -121.16,408.07 -109.16,418.07
3D body: height 30, standoff 24, extent -121.16,391.07 -109.16,408.07
3D body: height 6, standoff 0, extent 109.16,418.07 121.16,433.07
3D body: height 30, standoff 0, extent 109.16,408.07 121.16,418.07
3D body: height 30, standoff 24, extent 109.16,391.07 121.16,408.07
3D body: height 6, standoff 0, extent 83.57,418.07 95.57,433.07
3D body: height 30, standoff 0, extent 83.57,408.07 95.57,418.07
3D body: height 30, standoff 24, extent 83.57,391.07 95.57,408.07
3D body: height 6, standoff 0, extent 57.98,418.07 69.98,433.07
3D body: height 30, standoff 0, extent 57.98,408.07 69.98,418.07
3D body: height 30, standoff 24, extent 57.98,391.07 69.98,408.07
3D body: height 6, standoff 0, extent 32.39,418.07 44.39,433.07
3D body: height 30, standoff 0, extent 32.39,408.07 44.39,418.07
3D body: height 30, standoff 24, extent 32.39,391.07 44.39,408.07
3D body: height 6, standoff 0, extent 6.8,418.07 18.8,433.07
3D body: height 30, standoff 0, extent 6.8,408.07 18.8,418.07
3D body: height 30, standoff 24, extent 6.8,391.07 18.8,408.07
3D body: height 30, standoff 24, extent 134.75,391.07 146.75,408.07
3D body: height 30, standoff 0, extent 134.75,408.07 146.75,418.07
3D body: height 6, standoff 0, extent 134.75,418.07 146.75,433.07
3D body: height 30, standoff 24, extent 160.34,391.07 172.34,408.07
3D body: height 30, standoff 0, extent 160.34,408.07 172.34,418.07
3D body: height 6, standoff 0, extent 160.34,418.07 172.34,433.07
3D body: height 30, standoff 24, extent 185.93,391.07 197.93,408.07
3D body: height 30, standoff 0, extent 185.93,408.07 197.93,418.07
3D body: height 6, standoff 0, extent 185.93,418.07 197.93,433.07
3D body: height 30, standoff 24, extent 211.52,391.07 223.52,408.07
3D body: height 30, standoff 0, extent 211.52,408.07 223.52,418.07
3D body: height 6, standoff 0, extent 211.52,418.07 223.52,433.07
3D body: height 30, standoff 24, extent 237.11,391.07 249.11,408.07
3D body: height 30, standoff 0, extent 237.11,408.07 249.11,418.07
3D body: height 6, standoff 0, extent 237.11,418.07 249.11,433.07